# Altium schematic symbol library Switchs and buttons.SchLib: 13 symbols
Pins are listed as number, name and electrical type; pins without a type are passive.

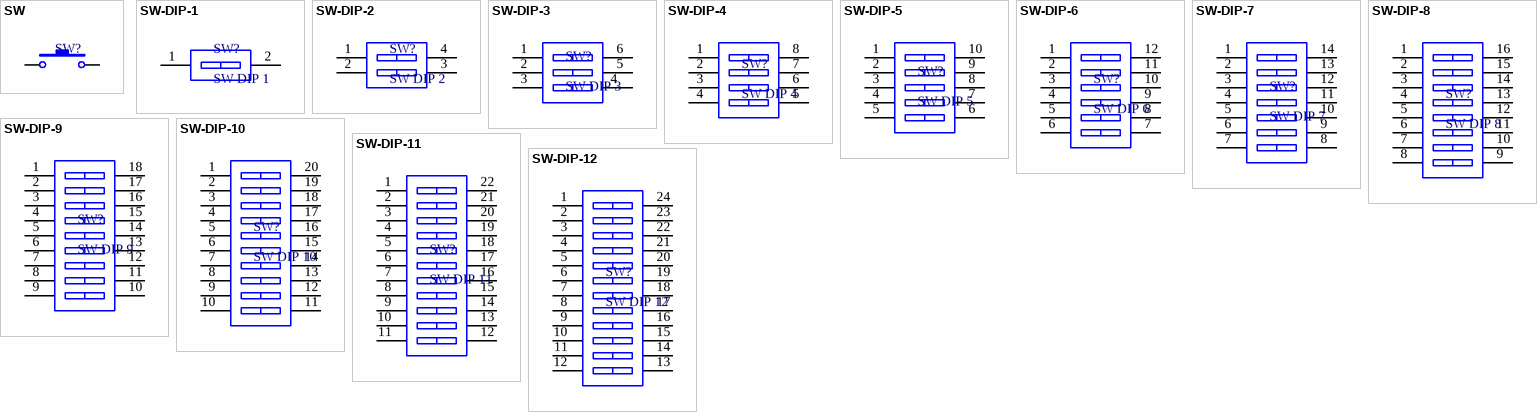
[diagram p0: symbols SW to SW-DIP-12]

## SW
designator SW?  (value not drawn)
Button; SAPO_NAME: Phím bấm 6x6x6mm (4 chân); SAPO_CODE: 191040; Mounting_Type: Through_Hole; Price: 500; Parameter 1: *; Parameter 2: *; Value: *
footprint SW-4.5x4.5-V
footprint SW-6.0X6.0-SMD-2
footprint SW-6.0X6.0-SMD
footprint SW-4.5X4.5-SMD-2
footprint SW-4.5X4.5-SMD
footprint SW-3.5X6.0-SMD
footprint SW-4x4x1.5-SMD
pins: 1, 2

## SW-DIP-1
designator SW?, comment SW DIP 1
Switch 1 bit; Parameter 1: *; Parameter 2: *; Parameter 3: *; Parameter 4: *; Parameter 5: *; Parameter 6: *; Value: *
footprint SW-DIP-1
pins: 1 A1, 2 A2

## SW-DIP-2
designator SW?, comment SW DIP 2
Switch 2 bit; Mounting_Type: Through_Hole; SAPO_CODE: 190050; SAPO_NAME: Gạt bít 2P (DIP-4) DS-02; Price: 2500; Processing Cost: *; Parameter 1: *; Value: *
footprint SW-DIP-2
footprint CSW1.27 SMD-2P
pins: 1 A1, 2 A2, 3 B2, 4 B1

## SW-DIP-3
designator SW?, comment SW DIP 3
Switch 3 bit; Mounting_Type: Through_Hole; SAPO_CODE: 190050; SAPO_NAME: Gạt bít 2P (DIP-4) DS-02; Price: 2500; Processing Cost: *; Parameter 1: *; Value: *
footprint SW-DIP-3
footprint CSW1.27 SMD-3P
pins: 1 A1, 2 A2, 3 A2, 4 A2, 5 B2, 6 B1

## SW-DIP-4
designator SW?, comment SW DIP 4
Switch 4 bit; Mounting_Type: Through_Hole; SAPO_CODE: 190050; SAPO_NAME: Gạt bít 2P (DIP-4) DS-02; Price: 2500; Processing Cost: *; Parameter 1: *; Value: *
footprint SW-DIP-4
footprint CSW1.27 SMD-4P
pins: 1 A1, 2 A2, 3 A2, 4, 5, 6, 7, 8

## SW-DIP-5
designator SW?, comment SW DIP 5
Switch 5 bit; Mounting_Type: Through_Hole; SAPO_CODE: 190050; SAPO_NAME: Gạt bít 2P (DIP-4) DS-02; Price: 2500; Processing Cost: *; Parameter 1: *; Value: *
footprint SW-DIP-5
footprint CSW1.27 SMD-5P
pins: 1 A1, 2 A2, 3 A2, 4, 5, 6, 7, 8, 9, 10

## SW-DIP-6
designator SW?, comment SW DIP 6
Switch 6 bit; Mounting_Type: Through_Hole; SAPO_CODE: 190050; SAPO_NAME: Gạt bít 2P (DIP-4) DS-02; Price: 2500; Processing Cost: *; Parameter 1: *; Value: *
footprint SW-DIP-6
footprint CSW1.27 SMD-6P
pins: 1 A1, 2 A2, 3 A2, 4, 5, 6, 7, 8, 9, 10, 11, 12

## SW-DIP-7
designator SW?, comment SW DIP 7
Switch 7 bit; Mounting_Type: Through_Hole; SAPO_CODE: 190050; SAPO_NAME: Gạt bít 2P (DIP-4) DS-02; Price: 2500; Processing Cost: *; Parameter 1: *; Value: *
footprint SW-DIP-7
pins: 1 A1, 2 A2, 3 A2, 4, 5, 6, 7, 8, 9, 10, 11, 12, 13, 14

## SW-DIP-8
designator SW?, comment SW DIP 8
Switch 8 bit; Mounting_Type: Through_Hole; SAPO_CODE: 190050; SAPO_NAME: Gạt bít 2P (DIP-4) DS-02; Price: 2500; Processing Cost: *; Parameter 1: *; Value: *
footprint SW-DIP-8
footprint CSW1.27 SMD-8P
pins: 1 A1, 2 A2, 3 A2, 4, 5, 6, 7, 8, 9, 10, 11, 12, 13, 14, 15, 16

## SW-DIP-9
designator SW?, comment SW DIP 9
Switch 9 bit; Mounting_Type: Through_Hole; SAPO_CODE: 190050; SAPO_NAME: Gạt bít 2P (DIP-4) DS-02; Price: 2500; Processing Cost: *; Parameter 1: *; Value: *
footprint SW-DIP-9
pins: 1 A1, 2 A2, 3 A2, 4, 5, 6, 7, 8, 9, 10, 11, 12, 13, 14, 15, 16, 17, 18

## SW-DIP-10
designator SW?, comment SW DIP 10
Switch 10 bit; Mounting_Type: Through_Hole; SAPO_CODE: 190050; SAPO_NAME: Gạt bít 2P (DIP-4) DS-02; Price: 2500; Processing Cost: *; Parameter 1: *; Value: *
footprint SW-DIP-10
footprint CSW1.27 SMD-10P
pins: 1 A1, 2 A2, 3 A2, 4, 5, 6, 7, 8, 9, 10, 11, 12, 13, 14, 15, 16, 17, 18, 19, 20

## SW-DIP-11
designator SW?, comment SW DIP 11
Switch 11 bit; Mounting_Type: Through_Hole; SAPO_CODE: 190050; SAPO_NAME: Gạt bít 2P (DIP-4) DS-02; Price: 2500; Processing Cost: *; Parameter 1: *; Value: *
footprint SW-DIP-11
pins: 1 A1, 2 A2, 3 A2, 4, 5, 6, 7, 8, 9, 10, 11, 12, 13, 14, 15, 16, 17, 18, 19, 20, 21, 22

## SW-DIP-12
designator SW?, comment SW DIP 12
Switch 12 bit; Mounting_Type: Through_Hole; SAPO_CODE: 190050; SAPO_NAME: Gạt bít 2P (DIP-4) DS-02; Price: 2500; Processing Cost: *; Parameter 1: *; Value: *
footprint SW-DIP-12
pins: 1 A1, 2 A2, 3 A2, 4, 5, 6, 7, 8, 9, 10, 11, 12, 13, 14, 15, 16, 17, 18, 19, 20, 21, 22, 23, 24